# Altium footprint library Sensors.PcbLib: 1 footprints
Each footprint in its own frame and in the unit in brackets; x right, y up, seen from the top. Pads: shape width x height; smd on the part's side, far side on the other; paste and mask are expansions set on the pad; w line width, h text height; cw(c..) or ccw(c..) is an arc to the next point about the centre after c.
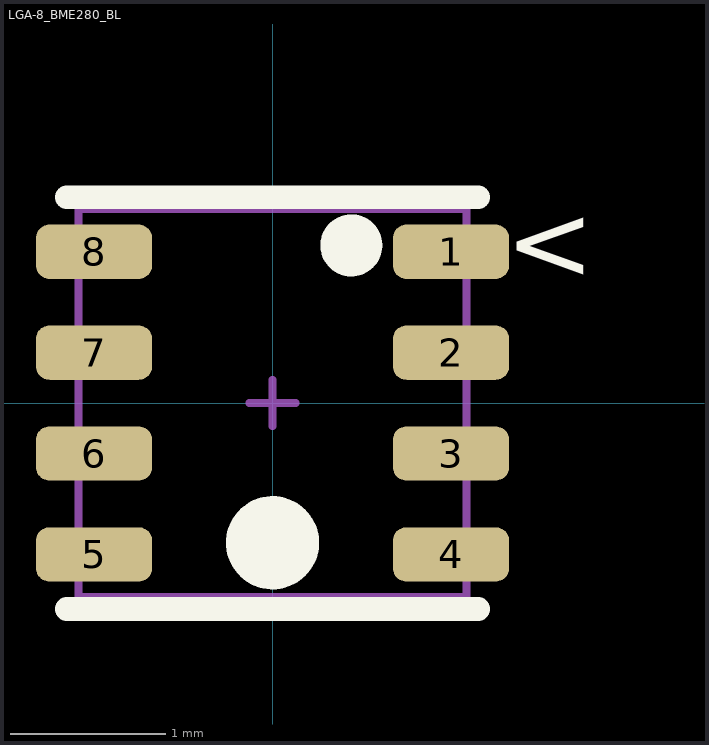
[diagram p0: the footprint, top view; thin cyan lines are the x and y axes]

## LGA-8_BME280_BL [mm]
pads (8):
  rrect50% 0.75x0.35 smd mask+0.05: 1(1.15,0.975) 2(1.15,0.325) 3(1.15,-0.325) 4(1.15,-0.975) 5(-1.15,-0.975) 6(-1.15,-0.325) 7(-1.15,0.325) 8(-1.15,0.975)
Top Overlay:
  circle w0.3: c0,-0.9 r0.15
  circle w0.2: c0.508,1.016 r0.1
  lines w0.152: -1.326,-1.326 1.326,-1.326 ; -1.326,1.326 1.326,1.326
  text ">" at 2.075,1.225 h0.5
Top Assembly:
  circle w0.05: c0,-0.9 r0.224
  lines w0.05: -1.25,-1.25 1.25,-1.25 1.25,1.25 -1.25,1.25 -1.25,-1.25
Top Component Center:
  lines w0.05: -0.15,0 0.15,0 ; 0,-0.15 0,0.15
3D body "Bme280.stp": height 0.97, standoff 0, extent -1.25,-1.25 1.25,1.25